# Altium footprint library aab_Passive.PcbLib: 8 footprints
Each footprint in its own frame and in the unit in brackets; x right, y up, seen from the top. Pads: shape width x height; smd on the part's side, far side on the other; paste and mask are expansions set on the pad; w line width, h text height; cw(c..) or ccw(c..) is an arc to the next point about the centre after c.
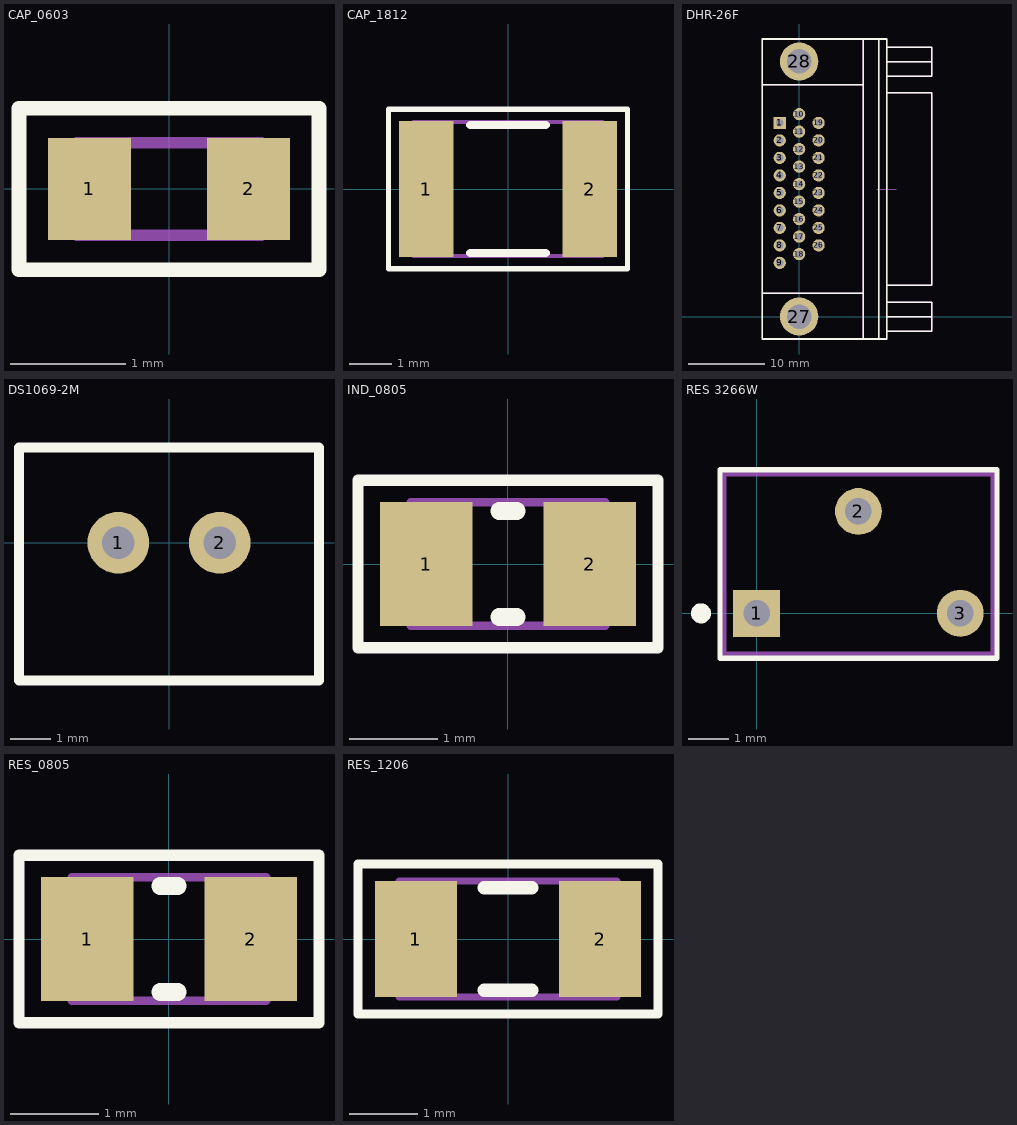
[diagram p0: the footprints below, top view; thin cyan lines are the x and y axes]

## CAP_0603 [mm]
height 0.9
pads (2):
  rect 0.72x0.88 smd: 1(-0.69,0) 2(0.69,0)
Top Overlay:
  lines w0.127: -1.3,-0.7 -1.3,0.7 1.3,0.7 1.3,-0.7 -1.3,-0.7
Mechanical 13:
  lines w0.1: -0.8,-0.4 -0.8,0.4 0.8,0.4 0.8,-0.4 -0.8,-0.4
3D body: height 0.9, standoff 0, extent -0.47,-0.4 0.47,0.4
3D body: height 0.9, standoff 0, extent -0.8,-0.4 -0.47,0.4
3D body: height 0.9, standoff 0, extent 0.47,-0.4 0.8,0.4

## CAP_1812 [mm]
height 2
pads (2):
  rect 1.3x3.25 smd: 1(-1.95,0) 2(1.95,0)
Top Overlay:
  lines w0.127: -2.85,-1.9 -2.85,1.9 2.85,1.9 2.85,-1.9 -2.85,-1.9
  lines w0.2: -0.9,-1.525 0.9,-1.525 ; -0.9,1.525 0.9,1.525
Mechanical 13:
  lines w0.1: -2.25,-1.6 -2.25,1.6 2.25,1.6 2.25,-1.6 -2.25,-1.6
3D body: height 2, standoff 0, extent -1.75,-1.6 1.75,1.6
3D body: height 2, standoff 0, extent -2.25,-1.6 -1.75,1.6
3D body: height 2, standoff 0, extent 1.75,-1.6 2.25,1.6

## DHR-26F [mm]
pads (28):
  rect 1.6x1.6 hole 1: 1(-2.54,25.298)
  round 1.6 hole 1: 2(-2.54,23.012) 3(-2.54,20.726) 4(-2.54,18.44) 5(-2.54,16.154) 6(-2.54,13.868) 7(-2.54,11.582) 8(-2.54,9.296) 9(-2.54,7.01) 10(0,26.441) 11(0,24.155) 12(0,21.869) 13(0,19.583) 14(0,17.297) 15(0,15.011) 16(0,12.725) 17(0,10.439) 18(0,8.153) 19(2.54,25.298) 20(2.54,23.012) 21(2.54,20.726) 22(2.54,18.44) 23(2.54,16.154) 24(2.54,13.868) 25(2.54,11.582) 26(2.54,9.296)
  round 5 hole 3.2: 27(0,0) 28(0,33.325)
Top Overlay:
  lines w0.2: -4.826,3.062 8.382,3.062 ; -4.826,30.262 8.382,30.262 ; 8.382,-2.938 8.382,36.262 ; 10.414,-2.938 10.414,36.262 ; 11.43,-1.92 17.33,-1.92 17.33,-0.02 ; 11.43,-0.02 17.33,-0.02 ; 11.43,1.88 17.33,1.88 17.33,-0.02 ; 11.43,4.062 17.33,4.062 17.33,29.262 11.43,29.262 ; 11.43,31.404 17.33,31.404 17.33,33.304 ; 11.43,33.304 17.33,33.304 ; 11.43,35.204 17.33,35.204 17.33,33.304 ; -4.826,-2.938 11.43,-2.938 11.43,36.262 -4.826,36.262 -4.826,-2.938
Mechanical 1:
  lines w0.2: -4.826,3.062 8.382,3.062 ; -4.826,30.262 8.382,30.262 ; 8.382,-2.938 8.382,36.262 ; 10.414,-2.938 10.414,36.262 ; 11.43,-1.92 17.33,-1.92 17.33,-0.02 ; 11.43,-0.02 17.33,-0.02 ; 11.43,1.88 17.33,1.88 17.33,-0.02 ; 11.43,4.062 17.33,4.062 17.33,29.262 11.43,29.262 ; 11.43,31.404 17.33,31.404 17.33,33.304 ; 11.43,33.304 17.33,33.304 ; 11.43,35.204 17.33,35.204 17.33,33.304 ; -4.826,-2.938 -4.826,36.262 11.43,36.262 11.43,-2.938 -4.826,-2.938
Mechanical 2:
  lines w0.2: 11.43,-2.938 11.43,36.262 ; 11.43,-1.92 17.33,-1.92 17.33,-0.02 ; 11.43,-0.02 17.33,-0.02 ; 11.43,1.88 17.33,1.88 17.33,-0.02 ; 11.43,4.062 17.33,4.062 17.33,29.262 11.43,29.262 ; 11.43,31.404 17.33,31.404 17.33,33.304 ; 11.43,33.304 17.33,33.304 ; 11.43,35.204 17.33,35.204 17.33,33.304
Mechanical 3:
  lines w0.05: 10.16,16.662 12.7,16.662 ; 11.43,15.392 11.43,17.932
3D body "ODD26F4R700X-AA-14.step": height 12.47, standoff -3.25, extent -3.81,-2.938 17.592,36.204

## DS1069-2M [mm]
pads (2):
  round 1.524 hole 0.8: 1(-1.25,0) 2(1.25,0)
Top Overlay:
  lines w0.254: -3.7,-3.4 3.7,-3.4 3.7,2.35 -3.7,2.35 -3.7,-3.4

## IND_0805 [mm]
height 1
pads (2):
  rect 1.05x1.4 smd: 1(-0.925,0) 2(0.925,0)
Top Overlay:
  lines w0.127: -1.7,-0.95 1.7,-0.95 1.7,0.95 -1.7,0.95 -1.7,-0.95
  lines w0.2: -0.1,-0.6 0.1,-0.6 ; -0.1,0.6 0.1,0.6
Mechanical 13:
  lines w0.1: -1.1,-0.7 1.1,-0.7 1.1,0.7 -1.1,0.7 -1.1,-0.7
3D body: height 1, standoff 0, extent 0.6,-0.7 1.1,0.7
3D body: height 1, standoff 0, extent -1.1,-0.7 -0.6,0.7
3D body: height 1, standoff 0, extent -0.6,-0.7 0.6,0.7

## RES 3266W [mm]
pads (3):
  rect 1.168x1.168 hole 0.66: 1(0,0)
  round 1.168 hole 0.66: 2(2.54,2.54) 3(5.08,0)
Top Overlay:
  circle w0.3: c-1.385,0 r0.1
  lines w0.127: -0.915,-1.12 5.995,-1.12 5.995,3.58 -0.915,3.58 -0.915,-1.12
Mechanical 13:
  lines w0.127: -0.815,-1.02 5.895,-1.02 5.895,3.48 -0.815,3.48 -0.815,-1.02
3D body "step_temp.STEP": height 8.77, standoff -5.37, extent -0.815,-1.02 5.895,3.48

## RES_0805 [mm]
height 1
pads (2):
  rect 1.05x1.4 smd: 1(-0.925,0) 2(0.925,0)
Top Overlay:
  lines w0.127: -1.7,-0.95 1.7,-0.95 1.7,0.95 -1.7,0.95 -1.7,-0.95
  lines w0.2: -0.1,-0.6 0.1,-0.6 ; -0.1,0.6 0.1,0.6
Mechanical 13:
  lines w0.1: -1.1,-0.7 1.1,-0.7 1.1,0.7 -1.1,0.7 -1.1,-0.7
3D body: height 1, standoff 0, extent 0.6,-0.7 1.1,0.7
3D body: height 1, standoff 0, extent -1.1,-0.7 -0.6,0.7
3D body: height 1, standoff 0, extent -0.6,-0.7 0.6,0.7

## RES_1206 [mm]
height 0.6
pads (2):
  rect 1.2x1.7 smd: 1(-1.35,0) 2(1.35,0)
Top Overlay:
  lines w0.127: -2.2,-1.1 2.2,-1.1 2.2,1.1 -2.2,1.1 -2.2,-1.1
  lines w0.2: -0.35,-0.75 0.35,-0.75 ; -0.35,0.75 0.35,0.75
Mechanical 13:
  lines w0.1: -1.6,-0.85 -1.6,0.85 1.6,0.85 1.6,-0.85 -1.6,-0.85
3D body "RES_1206.step": height 0.6, standoff 0, extent -1.6,-0.85 1.6,0.85